# Altium footprint library SOP-8_208mil.PcbLib: 1 footprints
Each footprint in its own frame and in the unit in brackets; x right, y up, seen from the top. Pads: shape width x height; smd on the part's side, far side on the other; paste and mask are expansions set on the pad; w line width, h text height; cw(c..) or ccw(c..) is an arc to the next point about the centre after c.
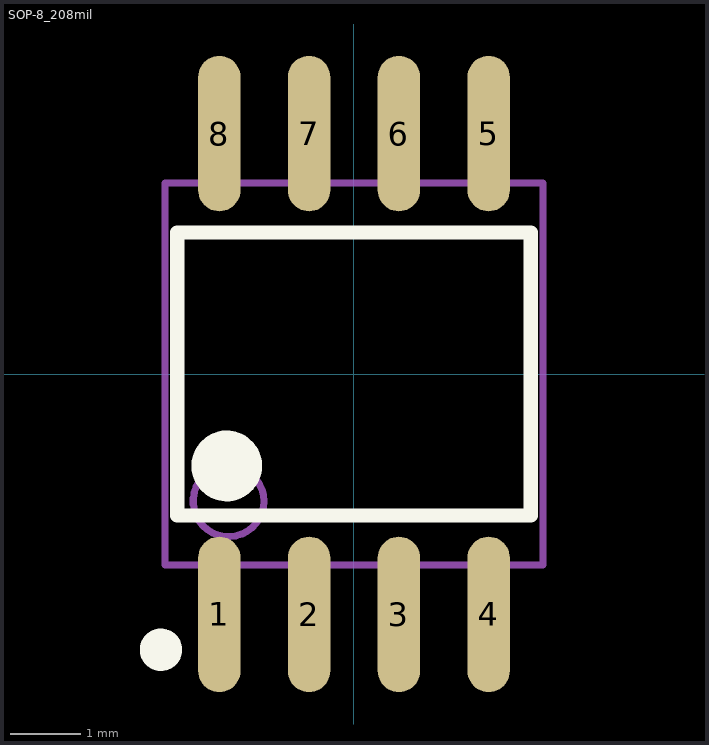
[diagram p0: the footprint, top view; thin cyan lines are the x and y axes]

## SOP-8_208mil [mm]
pads (8):
  oval 0.6x2.2 smd: 1(-1.905,-3.4) 2(-0.635,-3.4) 3(0.635,-3.4) 4(1.905,-3.4) 5(1.905,3.4) 6(0.635,3.4) 7(-0.635,3.4) 8(-1.905,3.4)
Top Overlay:
  circle w0.5: c-1.8,-1.3 r0.25
  circle w0.3: c-2.73,-3.9 r0.15
  lines w0.2: -2.5,-2 2.5,-2 2.5,2 -2.5,2 -2.5,-2
Mechanical 13:
  circle w0.1: c-1.775,-1.8 r0.5
  lines w0.1: -2.675,-2.7 2.675,-2.7 2.675,2.7 -2.675,2.7 -2.675,-2.7